# Altium schematic symbol library ULN2003A.SchLib: 1 symbol
Pins are listed as number, name and electrical type; pins without a type are passive.

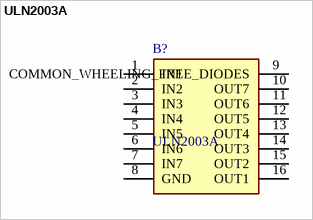
[diagram p0: symbol ULN2003A]

## ULN2003A
designator B?
Darlington Array x7 NPN 50V 0.5A PDIP16 STMicroelectronics ULN2003A, 7-element NPN Darlington Transistor Array, 0.5 A 50 V HFE:1000, 16-Pin PDIP; Geometry.Height: 5.33mm; TME Electronic Components Part Number: *; TME Electronic Components Price/Stock: *; Manufacturer_Name: STMicroelectronics; Manufacturer_Part_Number: ULN2003A; Datasheet Link: http://www.st.com/web/en/resource/technical/document/datasheet/CD00001244.pdf
footprint DIP794W56P254L1918H533Q16N
pins: 1 IN1, 2 IN2, 3 IN3, 4 IN4, 5 IN5, 6 IN6, 7 IN7, 8 GND, 9 COMMON_WHEELING_FREE_DIODES, 10 OUT7, 11 OUT6, 12 OUT5, 13 OUT4, 14 OUT3, 15 OUT2, 16 OUT1